# Altium footprint library Faith ruler V2.14.PcbLib: 13 footprints
Each footprint in its own frame and in the unit in brackets; x right, y up, seen from the top. Pads: shape width x height; smd on the part's side, far side on the other; paste and mask are expansions set on the pad; w line width, h text height; cw(c..) or ccw(c..) is an arc to the next point about the centre after c.
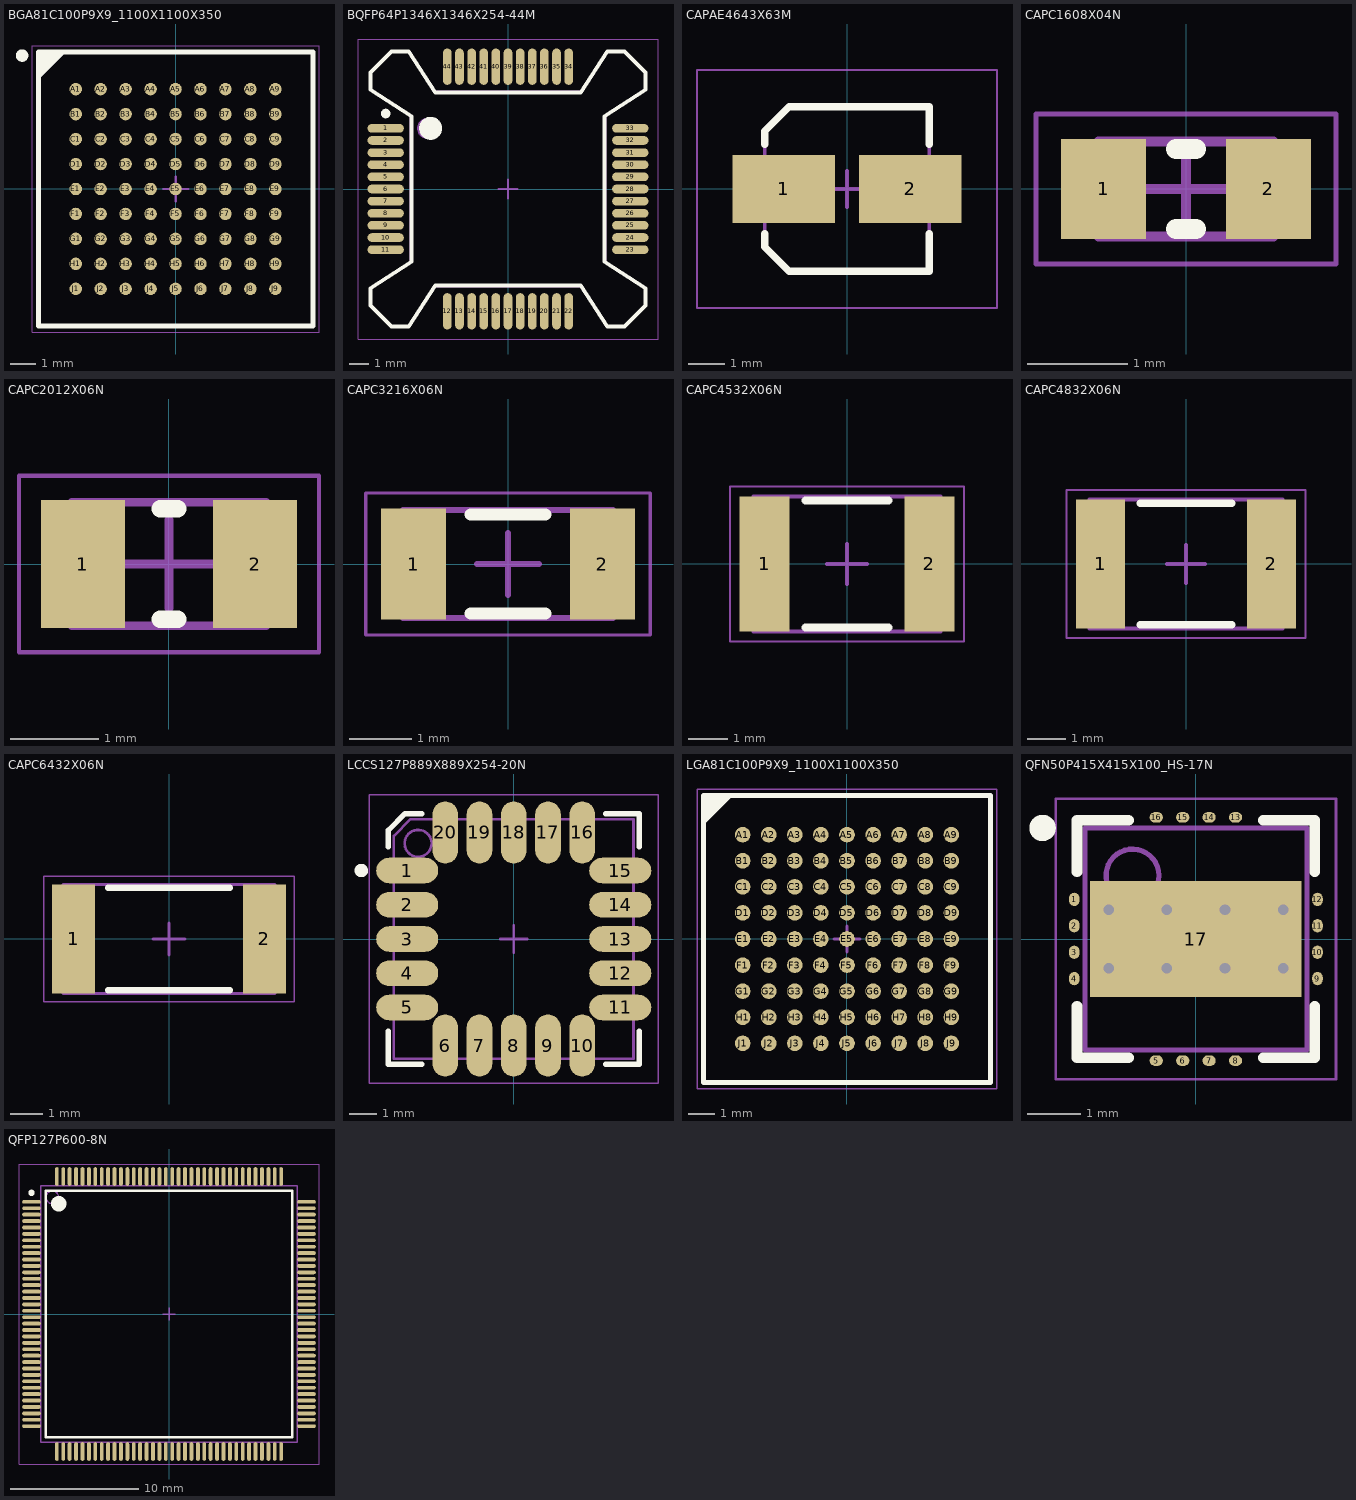
[diagram p0: the footprints below, top view; thin cyan lines are the x and y axes]

## BGA81C100P9X9_1100X1100X350 [mm] "BGA, 81-Leads, Body 11.00x11.00mmx3.50mm, Pitch 1.00mm"
height 3.5
pads (81):
  round 0.5 smd: A1(-4,4) A2(-3,4) A3(-2,4) A4(-1,4) A5(0,4) A6(1,4) A7(2,4) A8(3,4) A9(4,4) B1(-4,3) B2(-3,3) B3(-2,3) B4(-1,3) B5(0,3) B6(1,3) B7(2,3) B8(3,3) B9(4,3) C1(-4,2) C2(-3,2) C3(-2,2) C4(-1,2) C5(0,2) C6(1,2) C7(2,2) C8(3,2) C9(4,2) D1(-4,1) D2(-3,1) D3(-2,1) D4(-1,1) D5(0,1) D6(1,1) D7(2,1) D8(3,1) D9(4,1) E1(-4,0) E2(-3,0) E3(-2,0) E4(-1,0) E5(0,0) E6(1,0) E7(2,0) E8(3,0) E9(4,0) F1(-4,-1) F2(-3,-1) F3(-2,-1) F4(-1,-1) F5(0,-1) F6(1,-1) F7(2,-1) F8(3,-1) F9(4,-1) G1(-4,-2) G2(-3,-2) G3(-2,-2) G4(-1,-2) G5(0,-2) G6(1,-2) G7(2,-2) G8(3,-2) G9(4,-2) H1(-4,-3) H2(-3,-3) H3(-2,-3) H4(-1,-3) H5(0,-3) H6(1,-3) H7(2,-3) H8(3,-3) H9(4,-3) J1(-4,-4) J2(-3,-4) J3(-2,-4) J4(-1,-4) J5(0,-4) J6(1,-4) J7(2,-4) J8(3,-4) J9(4,-4)
Top Overlay:
  circle w0.25: c-6.15,5.35 r0.125
  region: -4.5,5.5 -5.5,4.5 -5.5,5.5
  lines w0.2: -5.5,4.5 -4.5,5.5 ; -5.5,-5.5 5.5,-5.5 5.5,5.5 -5.5,5.5 -5.5,-5.5
Mechanical 13:
  lines w0.1: -5.5,-5.5 5.5,-5.5 5.5,5.5 -5.5,5.5 -5.5,-5.5
Mechanical 15:
  lines w0.05: -5.75,-5.75 5.75,-5.75 5.75,5.75 -5.75,5.75 -5.75,-5.75
  lines w0.1: -0.5,0 0.5,0 ; 0,-0.5 0,0.5
3D body: height 3.5, standoff 0.3, extent -5.5,-5.5 5.5,5.5
3D body: height 0.25, standoff 0, extent 5.969,3.683 5.969,3.683

## BQFP64P1346X1346X254-44M [mm] "BQFP, 44-Leads, Body 13.47x13.47mm, Pitch 0.635mm, IPC Low Density"
height 2.54
pads (44):
  oval 1.9x0.45 smd: 1(-6.4,3.175) 2(-6.4,2.54) 3(-6.4,1.905) 4(-6.4,1.27) 5(-6.4,0.635) 6(-6.4,0) 7(-6.4,-0.635) 8(-6.4,-1.27) 9(-6.4,-1.905) 10(-6.4,-2.54) 11(-6.4,-3.175) 23(6.4,-3.175) 24(6.4,-2.54) 25(6.4,-1.905) 26(6.4,-1.27) 27(6.4,-0.635) 28(6.4,0) 29(6.4,0.635) 30(6.4,1.27) 31(6.4,1.905) 32(6.4,2.54) 33(6.4,3.175)
  oval 0.45x1.9 smd: 12(-3.175,-6.4) 13(-2.54,-6.4) 14(-1.905,-6.4) 15(-1.27,-6.4) 16(-0.635,-6.4) 17(0,-6.4) 18(0.635,-6.4) 19(1.27,-6.4) 20(1.905,-6.4) 21(2.54,-6.4) 22(3.175,-6.4) 34(3.175,6.4) 35(2.54,6.4) 36(1.905,6.4) 37(1.27,6.4) 38(0.635,6.4) 39(0,6.4) 40(-0.635,6.4) 41(-1.27,6.4) 42(-1.905,6.4) 43(-2.54,6.4) 44(-3.175,6.4)
Top Overlay:
  circle w0.25: c-6.4,3.95 r0.125
  circle w0.6: c-4.05,3.175 r0.3
  lines w0.2: -7.2,-6.09 -7.2,-5.2 -5.05,-3.802 -5.05,3.802 -7.2,5.2 -7.2,6.09 -6.09,7.2 -5.2,7.2 -3.802,5.05 3.802,5.05 5.2,7.2 6.09,7.2 7.2,6.09 7.2,5.2 5.05,3.802 5.05,-3.802 7.2,-5.2 7.2,-6.09 6.09,-7.2 5.2,-7.2 3.802,-5.05 -3.802,-5.05 -5.2,-7.2 -6.09,-7.2 -7.2,-6.09
Mechanical 13:
  circle w0.1: c-4.215,3.175 r0.5
  lines w0.1: -7.2,-6.09 -6.09,-7.2 -5.2,-7.2 -3.845,-5.115 3.845,-5.115 5.2,-7.2 6.09,-7.2 7.2,-6.09 7.2,-5.2 5.115,-3.845 5.115,3.845 7.2,5.2 7.2,6.09 6.09,7.2 5.2,7.2 3.845,5.115 -3.845,5.115 -5.2,7.2 -6.09,7.2 -7.2,6.09 -7.2,5.2 -5.115,3.845 -5.115,-3.845 -7.2,-5.2 -7.2,-6.09
Mechanical 15:
  lines w0.05: -7.85,-7.85 -7.85,7.85 7.85,7.85 7.85,-7.85 -7.85,-7.85
  lines w0.1: -0.5,0 0.5,0 ; 0,-0.5 0,0.5
3D body: height 2.54, standoff 0.1, extent -7.2,-7.2 7.2,7.2

## CAPAE4643X63M [mm] "Aluminum Electrolytic Capacitor, Body 4.30x4.30x6.30mm, IPC Low Density"
height 6.3
pads (2):
  rect 2.8x1.85 smd: 1(-1.725,0) 2(1.725,0)
Top Overlay:
  lines w0.2: -2.25,-1.225 -2.25,-1.587 -1.587,-2.25 2.25,-2.25 2.25,-1.225 ; -2.25,1.225 -2.25,1.587 -1.587,2.25 2.25,2.25 2.25,1.225
Mechanical 13:
  lines w0.1: -2.25,-1.587 -2.25,1.587 -1.587,2.25 2.25,2.25 2.25,-2.25 -1.587,-2.25 -2.25,-1.587
Mechanical 15:
  lines w0.05: -4.1,-3.25 4.1,-3.25 4.1,3.25 -4.1,3.25 -4.1,-3.25
  lines w0.1: -0.5,0 0.5,0 ; 0,-0.5 0,0.5
3D body: height 6.3, standoff 0, extent -2.25,-2.25 2.25,2.243
3D body: height 2.1, standoff 0, extent -2.25,-2.25 2.25,2.25

## CAPC1608X04N [mm] "Chip Capacitor, 2-Leads, Body 1.60x0.80mm, IPC Medium Density"
height 0.4
pads (2):
  rect 0.85x1 smd: 1(-0.825,0) 2(0.825,0)
Top Overlay:
  lines w0.2: -0.1,-0.4 0.1,-0.4 ; -0.1,0.4 0.1,0.4
Assembly Top:
  lines w0.1: -0.875,-0.475 0.875,-0.475 0.875,0.475 -0.875,0.475 -0.875,-0.475
Courtyard Top:
  lines w0.05: -1.5,-0.75 1.5,-0.75 1.5,0.75 -1.5,0.75 -1.5,-0.75
  lines w0.1: -0.475,0 0.475,0 ; 0,-0.475 0,0.475
3D body: height 0.4, standoff 0, extent 0.575,-0.475 0.875,0.475
3D body: height 0.4, standoff 0, extent -0.875,-0.475 -0.575,0.475
3D body: height 0.4, standoff 0, extent -0.575,-0.475 0.575,0.475

## CAPC2012X06N [mm] "Chip Capacitor, 2-Leads, Body 2.00x1.25mm, IPC Medium Density"
height 0.6
pads (2):
  rect 0.95x1.45 smd: 1(-0.975,0) 2(0.975,0)
Top Overlay:
  lines w0.2: -0.1,-0.625 0.1,-0.625 ; -0.1,0.625 0.1,0.625
Assembly Top:
  lines w0.1: -1.1,-0.7 1.1,-0.7 1.1,0.7 -1.1,0.7 -1.1,-0.7
Courtyard Top:
  lines w0.05: -1.7,-1 1.7,-1 1.7,1 -1.7,1 -1.7,-1
  lines w0.1: -0.5,0 0.5,0 ; 0,-0.5 0,0.5
3D body: height 0.6, standoff 0, extent 0.8,-0.7 1.1,0.7
3D body: height 0.6, standoff 0, extent -1.1,-0.7 -0.8,0.7
3D body: height 0.6, standoff 0, extent -0.8,-0.7 0.8,0.7

## CAPC3216X06N [mm] "Chip Capacitor, 2-Leads, Body 3.20x1.60mm, IPC Medium Density"
height 0.55
pads (2):
  rect 1.05x1.8 smd: 1(-1.525,0) 2(1.525,0)
Top Overlay:
  lines w0.2: -0.6,-0.8 0.6,-0.8 ; -0.6,0.8 0.6,0.8
Assembly Top:
  lines w0.1: -1.7,-0.875 1.7,-0.875 1.7,0.875 -1.7,0.875 -1.7,-0.875
Courtyard Top:
  lines w0.05: -2.3,-1.15 2.3,-1.15 2.3,1.15 -2.3,1.15 -2.3,-1.15
  lines w0.1: -0.5,0 0.5,0 ; 0,-0.5 0,0.5
3D body: height 0.55, standoff 0, extent 1.2,-0.875 1.7,0.875
3D body: height 0.55, standoff 0, extent -1.7,-0.875 -1.2,0.875
3D body: height 0.55, standoff 0, extent -1.2,-0.875 1.2,0.875

## CAPC4532X06N [mm] "Chip Capacitor, 2-Leads, Body 4.50x3.20mm, IPC Medium Density"
height 0.55
pads (2):
  rect 1.25x3.4 smd: 1(-2.075,0) 2(2.075,0)
Top Overlay:
  lines w0.2: -1.05,-1.6 1.05,-1.6 ; -1.05,1.6 1.05,1.6
Assembly Top:
  lines w0.1: -2.35,-1.7 2.35,-1.7 2.35,1.7 -2.35,1.7 -2.35,-1.7
Courtyard Top:
  lines w0.05: -2.95,-1.95 2.95,-1.95 2.95,1.95 -2.95,1.95 -2.95,-1.95
  lines w0.1: -0.5,0 0.5,0 ; 0,-0.5 0,0.5
3D body: height 0.55, standoff 0, extent 1.85,-1.7 2.35,1.7
3D body: height 0.55, standoff 0, extent -2.35,-1.7 -1.85,1.7
3D body: height 0.55, standoff 0, extent -1.85,-1.7 1.85,1.7

## CAPC4832X06N [mm] "Chip Capacitor, 2-Leads, Body 4.85x3.20mm, IPC Medium Density"
height 0.55
pads (2):
  rect 1.3x3.4 smd: 1(-2.25,0) 2(2.25,0)
Top Overlay:
  lines w0.2: -1.2,-1.6 1.2,-1.6 ; -1.2,1.6 1.2,1.6
Assembly Top:
  lines w0.1: -2.55,-1.7 2.55,-1.7 2.55,1.7 -2.55,1.7 -2.55,-1.7
Courtyard Top:
  lines w0.05: -3.15,-1.95 3.15,-1.95 3.15,1.95 -3.15,1.95 -3.15,-1.95
  lines w0.1: -0.5,0 0.5,0 ; 0,-0.5 0,0.5
3D body: height 0.55, standoff 0, extent 2.05,-1.7 2.55,1.7
3D body: height 0.55, standoff 0, extent -2.55,-1.7 -2.05,1.7
3D body: height 0.55, standoff 0, extent -2.05,-1.7 2.05,1.7

## CAPC6432X06N [mm] "Chip Capacitor, 2-Leads, Body 6.40x3.20mm, IPC Medium Density"
height 0.55
pads (2):
  rect 1.35x3.4 smd: 1(-2.975,0) 2(2.975,0)
Top Overlay:
  lines w0.2: -1.9,-1.6 1.9,-1.6 ; -1.9,1.6 1.9,1.6
Assembly Top:
  lines w0.1: -3.3,-1.7 3.3,-1.7 3.3,1.7 -3.3,1.7 -3.3,-1.7
Courtyard Top:
  lines w0.05: -3.9,-1.95 3.9,-1.95 3.9,1.95 -3.9,1.95 -3.9,-1.95
  lines w0.1: -0.5,0 0.5,0 ; 0,-0.5 0,0.5
3D body: height 0.55, standoff 0, extent 2.7,-1.7 3.3,1.7
3D body: height 0.55, standoff 0, extent -3.3,-1.7 -2.7,1.7
3D body: height 0.55, standoff 0, extent -2.7,-1.7 2.7,1.7

## LCCS127P889X889X254-20N [mm] "LCC, 20-Pins, Body 8.89x8.89mmx2.54mm, Pitch 1.27mm, IPC Medium Density"
height 2.54
pads (20):
  oval 2.3x0.95 smd: 1(-3.95,2.54) 2(-3.95,1.27) 3(-3.95,0) 4(-3.95,-1.27) 5(-3.95,-2.54) 11(3.95,-2.54) 12(3.95,-1.27) 13(3.95,0) 14(3.95,1.27) 15(3.95,2.54)
  oval 0.95x2.3 smd: 6(-2.54,-3.95) 7(-1.27,-3.95) 8(0,-3.95) 9(1.27,-3.95) 10(2.54,-3.95) 16(2.54,3.95) 17(1.27,3.95) 18(0,3.95) 19(-1.27,3.95) 20(-2.54,3.95)
Top Overlay:
  circle w0.25: c-5.65,2.54 r0.125
  lines w0.2: -4.65,-3.415 -4.65,-4.65 -3.415,-4.65 ; -4.65,3.415 -4.65,4.032 -4.032,4.65 -3.415,4.65 ; 3.415,-4.65 4.65,-4.65 4.65,-3.415 ; 3.415,4.65 4.65,4.65 4.65,3.415
Mechanical 13:
  circle w0.1: c-3.545,3.545 r0.5
  lines w0.1: -4.445,-4.445 4.445,-4.445 4.445,4.445 -3.828,4.445 -4.445,3.828 -4.445,-4.445
Mechanical 15:
  lines w0.05: -5.35,-5.35 5.35,-5.35 5.35,5.35 -5.35,5.35 -5.35,-5.35
  lines w0.1: -0.5,0 0.5,0 ; 0,-0.5 0,0.5
3D body: height 2.54, standoff 0, extent -4.445,-4.445 4.445,4.445

## LGA81C100P9X9_1100X1100X350 [mm] "LGA, 81-Leads, Body 11.00x11.00mmx3.50mm, Pitch 1.00mm"
height 3.5
pads (81):
  round 0.6 smd: A1(-4,4) A2(-3,4) A3(-2,4) A4(-1,4) A5(0,4) A6(1,4) A7(2,4) A8(3,4) A9(4,4) B1(-4,3) B2(-3,3) B3(-2,3) B4(-1,3) B5(0,3) B6(1,3) B7(2,3) B8(3,3) B9(4,3) C1(-4,2) C2(-3,2) C3(-2,2) C4(-1,2) C5(0,2) C6(1,2) C7(2,2) C8(3,2) C9(4,2) D1(-4,1) D2(-3,1) D3(-2,1) D4(-1,1) D5(0,1) D6(1,1) D7(2,1) D8(3,1) D9(4,1) E1(-4,0) E2(-3,0) E3(-2,0) E4(-1,0) E5(0,0) E6(1,0) E7(2,0) E8(3,0) E9(4,0) F1(-4,-1) F2(-3,-1) F3(-2,-1) F4(-1,-1) F5(0,-1) F6(1,-1) F7(2,-1) F8(3,-1) F9(4,-1) G1(-4,-2) G2(-3,-2) G3(-2,-2) G4(-1,-2) G5(0,-2) G6(1,-2) G7(2,-2) G8(3,-2) G9(4,-2) H1(-4,-3) H2(-3,-3) H3(-2,-3) H4(-1,-3) H5(0,-3) H6(1,-3) H7(2,-3) H8(3,-3) H9(4,-3) J1(-4,-4) J2(-3,-4) J3(-2,-4) J4(-1,-4) J5(0,-4) J6(1,-4) J7(2,-4) J8(3,-4) J9(4,-4)
Top Overlay:
  region: -4.5,5.5 -5.5,4.5 -5.5,5.5
  lines w0.2: -5.5,4.5 -4.5,5.5 ; -5.5,-5.5 5.5,-5.5 5.5,5.5 -5.5,5.5 -5.5,-5.5
Mechanical 13:
  lines w0.1: -5.5,-5.5 5.5,-5.5 5.5,5.5 -5.5,5.5 -5.5,-5.5
Mechanical 15:
  lines w0.05: -5.75,-5.75 5.75,-5.75 5.75,5.75 -5.75,5.75 -5.75,-5.75
  lines w0.1: -0.5,0 0.5,0 ; 0,-0.5 0,0.5
3D body: height 3.5, standoff 0.3, extent -5.5,-5.5 5.5,5.5

## QFN50P415X415X100_HS-17N [mm] "QFN, 16-Leads, Body 4.15x4.15mm, Pitch 0.50mm, Thermal Pad 4.00x2.20mm, IPC Medium Density"
height 1
pads (17):
  oval 0.2x0.25 smd: 1(-2.3,0.75) 2(-2.3,0.25) 3(-2.3,-0.25) 4(-2.3,-0.75) 9(2.3,-0.75) 10(2.3,-0.25) 11(2.3,0.25) 12(2.3,0.75)
  oval 0.25x0.2 smd: 5(-0.75,-2.3) 6(-0.25,-2.3) 7(0.25,-2.3) 8(0.75,-2.3) 13(0.75,2.3) 14(0.25,2.3) 15(-0.25,2.3) 16(-0.75,2.3)
  rect 4x2.2 smd: 17(0,0)
via 1.65,-0.55 diameter 0.5 hole 0.2
via 0.55,-0.55 diameter 0.5 hole 0.2
via -0.55,-0.55 diameter 0.5 hole 0.2
via -1.65,-0.55 diameter 0.5 hole 0.2
via 1.65,0.55 diameter 0.5 hole 0.2
via 0.55,0.55 diameter 0.5 hole 0.2
via -0.55,0.55 diameter 0.5 hole 0.2
via -1.65,0.55 diameter 0.5 hole 0.2
Top Overlay:
  circle w0.25: c-2.9,2.1 r0.125
  lines w0.2: -2.25,-1.275 -2.25,-2.25 -1.275,-2.25 ; -2.25,1.275 -2.25,2.25 -1.275,2.25 ; 1.275,-2.25 2.25,-2.25 2.25,-1.275 ; 1.275,2.25 2.25,2.25 2.25,1.275
Mechanical 13:
  circle w0.1: c-1.2,1.2 r0.5
  lines w0.1: -2.1,-2.1 2.1,-2.1 2.1,2.1 -2.1,2.1 -2.1,-2.1
Mechanical 15:
  lines w0.05: -2.65,-2.65 2.65,-2.65 2.65,2.65 -2.65,2.65 -2.65,-2.65
  lines w0.1: -0.5,0 0.5,0 ; 0,-0.5 0,0.5
3D body: height 1, standoff 0.02, extent -2.1,-2.1 2.1,2.1

## QFP127P600-8N [mm]
height 1.6
pads (144):
  oval 1.45x0.3 smd: 1(-10.725,8.75) 2(-10.725,8.25) 3(-10.725,7.75) 4(-10.725,7.25) 5(-10.725,6.75) 6(-10.725,6.25) 7(-10.725,5.75) 8(-10.725,5.25) 9(-10.725,4.75) 10(-10.725,4.25) 11(-10.725,3.75) 12(-10.725,3.25) 13(-10.725,2.75) 14(-10.725,2.25) 15(-10.725,1.75) 16(-10.725,1.25) 17(-10.725,0.75) 18(-10.725,0.25) 19(-10.725,-0.25) 20(-10.725,-0.75) 21(-10.725,-1.25) 22(-10.725,-1.75) 23(-10.725,-2.25) 24(-10.725,-2.75) 25(-10.725,-3.25) 26(-10.725,-3.75) 27(-10.725,-4.25) 28(-10.725,-4.75) 29(-10.725,-5.25) 30(-10.725,-5.75) 31(-10.725,-6.25) 32(-10.725,-6.75) 33(-10.725,-7.25) 34(-10.725,-7.75) 35(-10.725,-8.25) 36(-10.725,-8.75) 73(10.725,-8.75) 74(10.725,-8.25) 75(10.725,-7.75) 76(10.725,-7.25) 77(10.725,-6.75) 78(10.725,-6.25) 79(10.725,-5.75) 80(10.725,-5.25) 81(10.725,-4.75) 82(10.725,-4.25) 83(10.725,-3.75) 84(10.725,-3.25) 85(10.725,-2.75) 86(10.725,-2.25) 87(10.725,-1.75) 88(10.725,-1.25) 89(10.725,-0.75) 90(10.725,-0.25) 91(10.725,0.25) 92(10.725,0.75) 93(10.725,1.25) 94(10.725,1.75) 95(10.725,2.25) 96(10.725,2.75) 97(10.725,3.25) 98(10.725,3.75) 99(10.725,4.25) 100(10.725,4.75) 101(10.725,5.25) 102(10.725,5.75) 103(10.725,6.25) 104(10.725,6.75) 105(10.725,7.25) 106(10.725,7.75) 107(10.725,8.25) 108(10.725,8.75)
  oval 0.3x1.45 smd: 37(-8.75,-10.725) 38(-8.25,-10.725) 39(-7.75,-10.725) 40(-7.25,-10.725) 41(-6.75,-10.725) 42(-6.25,-10.725) 43(-5.75,-10.725) 44(-5.25,-10.725) 45(-4.75,-10.725) 46(-4.25,-10.725) 47(-3.75,-10.725) 48(-3.25,-10.725) 49(-2.75,-10.725) 50(-2.25,-10.725) 51(-1.75,-10.725) 52(-1.25,-10.725) 53(-0.75,-10.725) 54(-0.25,-10.725) 55(0.25,-10.725) 56(0.75,-10.725) 57(1.25,-10.725) 58(1.75,-10.725) 59(2.25,-10.725) 60(2.75,-10.725) 61(3.25,-10.725) 62(3.75,-10.725) 63(4.25,-10.725) 64(4.75,-10.725) 65(5.25,-10.725) 66(5.75,-10.725) 67(6.25,-10.725) 68(6.75,-10.725) 69(7.25,-10.725) 70(7.75,-10.725) 71(8.25,-10.725) 72(8.75,-10.725) 109(8.75,10.725) 110(8.25,10.725) 111(7.75,10.725) 112(7.25,10.725) 113(6.75,10.725) 114(6.25,10.725) 115(5.75,10.725) 116(5.25,10.725) 117(4.75,10.725) 118(4.25,10.725) 119(3.75,10.725) 120(3.25,10.725) 121(2.75,10.725) 122(2.25,10.725) 123(1.75,10.725) 124(1.25,10.725) 125(0.75,10.725) 126(0.25,10.725) 127(-0.25,10.725) 128(-0.75,10.725) 129(-1.25,10.725) 130(-1.75,10.725) 131(-2.25,10.725) 132(-2.75,10.725) 133(-3.25,10.725) 134(-3.75,10.725) 135(-4.25,10.725) 136(-4.75,10.725) 137(-5.25,10.725) 138(-5.75,10.725) 139(-6.25,10.725) 140(-6.75,10.725) 141(-7.25,10.725) 142(-7.75,10.725) 143(-8.25,10.725) 144(-8.75,10.725)
Top Overlay:
  circle w0.25: c-10.725,9.45 r0.125
  circle w0.6: c-8.6,8.6 r0.3
  lines w0.2: -9.6,-9.6 -9.6,9.6 9.6,9.6 9.6,-9.6 -9.6,-9.6
Mechanical 13:
  circle w0.1: c-9.1,9.1 r0.5
  lines w0.1: -10,-10 -10,10 10,10 10,-10 -10,-10
Mechanical 15:
  lines w0.05: -11.7,-11.7 -11.7,11.7 11.7,11.7 11.7,-11.7 -11.7,-11.7
  lines w0.1: -0.5,0 0.5,0 ; 0,-0.5 0,0.5
3D body: height 1.6, standoff 0.1, extent -10,-10 10,10